# Altium schematic symbol library IR2104S.SchLib: 1 symbol
Pins are listed as number, name and electrical type; pins without a type are passive.

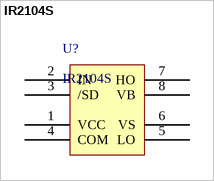
[diagram p0: symbol IR2104S]

## IR2104S
designator U?
footprint IR2104S
pins: 1 VCC, 2 IN, 3 /SD, 4 COM, 5 LO, 6 VS, 7 HO, 8 VB